# Altium footprint library Nuvoton Footprints.PcbLib: 21 footprints (part 1 of 2)
Each footprint in its own frame and in the unit in brackets; x right, y up, seen from the top. Pads: shape width x height; smd on the part's side, far side on the other; paste and mask are expansions set on the pad; w line width, h text height; cw(c..) or ccw(c..) is an arc to the next point about the centre after c.
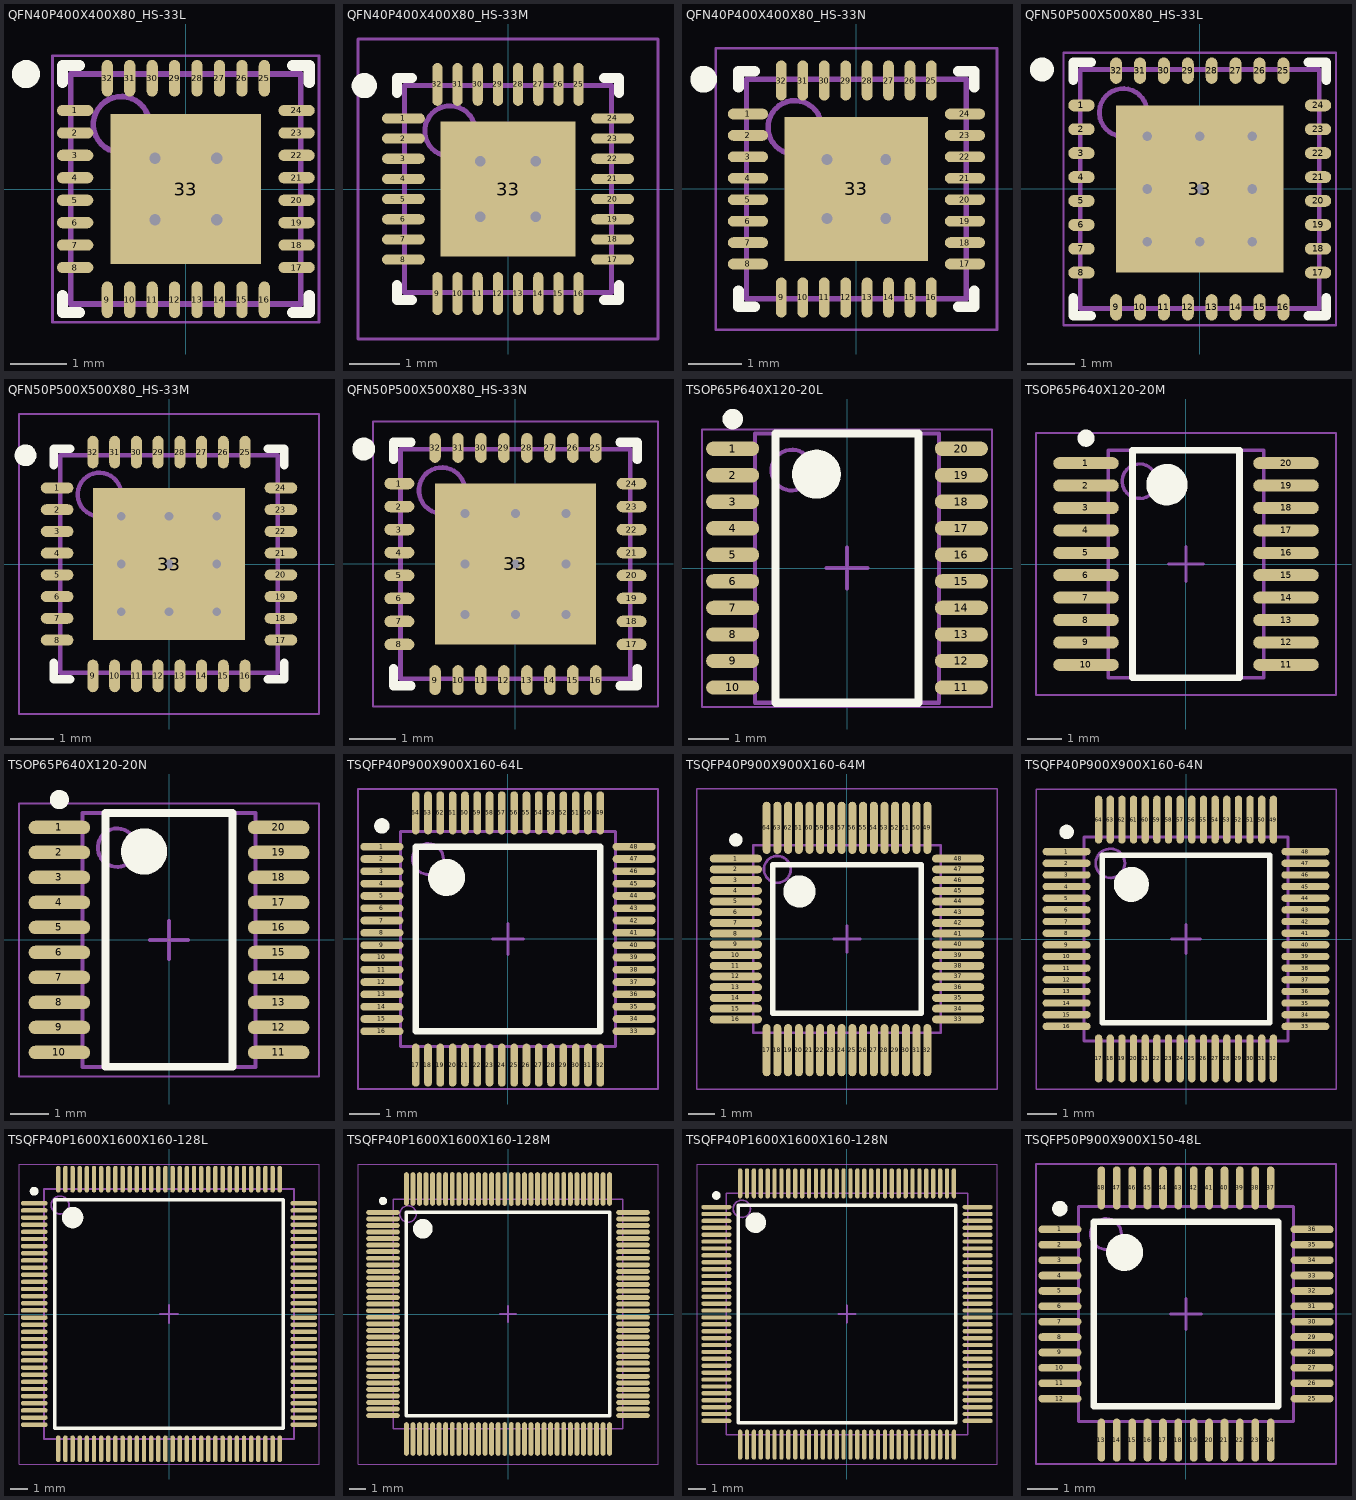
[diagram p0: the footprints below, top view; thin cyan lines are the x and y axes]

## QFN40P400X400X80_HS-33L [mm] "QFN, 32-Leads, Body 4.00x4.00mm, Pitch 0.40mm, Thermal Pad 2.68x2.68mm, IPC High Density"
height 0.8
pads (33):
  oval 0.65x0.2 smd: 1(-1.975,1.4) 2(-1.975,1) 3(-1.975,0.6) 4(-1.975,0.2) 5(-1.975,-0.2) 6(-1.975,-0.6) 7(-1.975,-1) 8(-1.975,-1.4) 17(1.975,-1.4) 18(1.975,-1) 19(1.975,-0.6) 20(1.975,-0.2) 21(1.975,0.2) 22(1.975,0.6) 23(1.975,1) 24(1.975,1.4)
  oval 0.2x0.65 smd: 9(-1.4,-1.975) 10(-1,-1.975) 11(-0.6,-1.975) 12(-0.2,-1.975) 13(0.2,-1.975) 14(0.6,-1.975) 15(1,-1.975) 16(1.4,-1.975) 25(1.4,1.975) 26(1,1.975) 27(0.6,1.975) 28(0.2,1.975) 29(-0.2,1.975) 30(-0.6,1.975) 31(-1,1.975) 32(-1.4,1.975)
  rect 2.68x2.68 smd: 33(0,0)
via -0.55,0.55 diameter 0.5 hole 0.2
via 0.55,0.55 diameter 0.5 hole 0.2
via -0.55,-0.55 diameter 0.5 hole 0.2
via 0.55,-0.55 diameter 0.5 hole 0.2
Top Overlay:
  circle w0.25: c-2.85,2.05 r0.125
  lines w0.2: -2.2,-1.9 -2.2,-2.2 -1.9,-2.2 ; -2.2,1.9 -2.2,2.2 -1.9,2.2 ; 1.9,-2.2 2.2,-2.2 2.2,-1.9 ; 1.9,2.2 2.2,2.2 2.2,1.9
Mechanical 13:
  circle w0.1: c-1.15,1.15 r0.5
  lines w0.1: -2.05,-2.05 -2.05,2.05 2.05,2.05 2.05,-2.05 -2.05,-2.05
Mechanical 15:
  lines w0.05: -2.375,-2.375 -2.375,2.375 2.375,2.375 2.375,-2.375 -2.375,-2.375
  lines w0.1: -0.5,0 0.5,0 ; 0,-0.5 0,0.5
3D body: height 0.8, standoff 0.01, extent -2.05,-2.05 2.05,2.05

## QFN40P400X400X80_HS-33M [mm] "QFN, 32-Leads, Body 4.00x4.00mm, Pitch 0.40mm, Thermal Pad 2.68x2.68mm, IPC Low Density"
height 0.8
pads (33):
  oval 0.85x0.2 smd: 1(-2.075,1.4) 2(-2.075,1) 3(-2.075,0.6) 4(-2.075,0.2) 5(-2.075,-0.2) 6(-2.075,-0.6) 7(-2.075,-1) 8(-2.075,-1.4) 17(2.075,-1.4) 18(2.075,-1) 19(2.075,-0.6) 20(2.075,-0.2) 21(2.075,0.2) 22(2.075,0.6) 23(2.075,1) 24(2.075,1.4)
  oval 0.2x0.85 smd: 9(-1.4,-2.075) 10(-1,-2.075) 11(-0.6,-2.075) 12(-0.2,-2.075) 13(0.2,-2.075) 14(0.6,-2.075) 15(1,-2.075) 16(1.4,-2.075) 25(1.4,2.075) 26(1,2.075) 27(0.6,2.075) 28(0.2,2.075) 29(-0.2,2.075) 30(-0.6,2.075) 31(-1,2.075) 32(-1.4,2.075)
  rect 2.68x2.68 smd: 33(0,0)
via -0.55,0.55 diameter 0.5 hole 0.2
via 0.55,0.55 diameter 0.5 hole 0.2
via -0.55,-0.55 diameter 0.5 hole 0.2
via 0.55,-0.55 diameter 0.5 hole 0.2
Top Overlay:
  circle w0.25: c-2.85,2.05 r0.125
  lines w0.2: -2.2,-1.9 -2.2,-2.2 -1.9,-2.2 ; -2.2,1.9 -2.2,2.2 -1.9,2.2 ; 1.9,-2.2 2.2,-2.2 2.2,-1.9 ; 1.9,2.2 2.2,2.2 2.2,1.9
Mechanical 13:
  circle w0.1: c-1.15,1.15 r0.5
  lines w0.1: -2.05,-2.05 -2.05,2.05 2.05,2.05 2.05,-2.05 -2.05,-2.05
Mechanical 15:
  lines w0.05: -2.975,-2.975 -2.975,2.975 2.975,2.975 2.975,-2.975 -2.975,-2.975
  lines w0.1: -0.5,0 0.5,0 ; 0,-0.5 0,0.5
3D body: height 0.8, standoff 0.01, extent -2.05,-2.05 2.05,2.05

## QFN40P400X400X80_HS-33N [mm] "QFN, 32-Leads, Body 4.00x4.00mm, Pitch 0.40mm, Thermal Pad 2.68x2.68mm, IPC Medium Density"
height 0.8
pads (33):
  oval 0.75x0.2 smd: 1(-2.025,1.4) 2(-2.025,1) 3(-2.025,0.6) 4(-2.025,0.2) 5(-2.025,-0.2) 6(-2.025,-0.6) 7(-2.025,-1) 8(-2.025,-1.4) 17(2.025,-1.4) 18(2.025,-1) 19(2.025,-0.6) 20(2.025,-0.2) 21(2.025,0.2) 22(2.025,0.6) 23(2.025,1) 24(2.025,1.4)
  oval 0.2x0.75 smd: 9(-1.4,-2.025) 10(-1,-2.025) 11(-0.6,-2.025) 12(-0.2,-2.025) 13(0.2,-2.025) 14(0.6,-2.025) 15(1,-2.025) 16(1.4,-2.025) 25(1.4,2.025) 26(1,2.025) 27(0.6,2.025) 28(0.2,2.025) 29(-0.2,2.025) 30(-0.6,2.025) 31(-1,2.025) 32(-1.4,2.025)
  rect 2.68x2.68 smd: 33(0,0)
via 0.55,-0.55 diameter 0.5 hole 0.2
via -0.55,-0.55 diameter 0.5 hole 0.2
via 0.55,0.55 diameter 0.5 hole 0.2
via -0.55,0.55 diameter 0.5 hole 0.2
Top Overlay:
  circle w0.25: c-2.85,2.05 r0.125
  lines w0.2: -2.2,-1.9 -2.2,-2.2 -1.9,-2.2 ; -2.2,1.9 -2.2,2.2 -1.9,2.2 ; 1.9,-2.2 2.2,-2.2 2.2,-1.9 ; 1.9,2.2 2.2,2.2 2.2,1.9
Mechanical 13:
  circle w0.1: c-1.15,1.15 r0.5
  lines w0.1: -2.05,-2.05 2.05,-2.05 2.05,2.05 -2.05,2.05 -2.05,-2.05
Mechanical 15:
  lines w0.05: -2.625,-2.625 2.625,-2.625 2.625,2.625 -2.625,2.625 -2.625,-2.625
  lines w0.1: -0.5,0 0.5,0 ; 0,-0.5 0,0.5
3D body: height 0.8, standoff 0.01, extent -2.05,-2.05 2.05,2.05

## QFN50P500X500X80_HS-33L [mm] "QFN, 32-Leads, Body 5.00x5.00mm, Pitch 0.50mm, Thermal Pad 3.50x3.50mm, IPC High Density"
height 0.8
pads (33):
  oval 0.55x0.25 smd: 1(-2.475,1.75) 2(-2.475,1.25) 3(-2.475,0.75) 4(-2.475,0.25) 5(-2.475,-0.25) 6(-2.475,-0.75) 7(-2.475,-1.25) 8(-2.475,-1.75) 17(2.475,-1.75) 18(2.475,-1.25) 19(2.475,-0.75) 20(2.475,-0.25) 21(2.475,0.25) 22(2.475,0.75) 23(2.475,1.25) 24(2.475,1.75)
  oval 0.25x0.55 smd: 9(-1.75,-2.475) 10(-1.25,-2.475) 11(-0.75,-2.475) 12(-0.25,-2.475) 13(0.25,-2.475) 14(0.75,-2.475) 15(1.25,-2.475) 16(1.75,-2.475) 25(1.75,2.475) 26(1.25,2.475) 27(0.75,2.475) 28(0.25,2.475) 29(-0.25,2.475) 30(-0.75,2.475) 31(-1.25,2.475) 32(-1.75,2.475)
  rect 3.5x3.5 smd: 33(0,0)
via -1.1,1.1 diameter 0.5 hole 0.2
via 0,1.1 diameter 0.5 hole 0.2
via 1.1,1.1 diameter 0.5 hole 0.2
via -1.1,0 diameter 0.5 hole 0.2
via 0,0 diameter 0.5 hole 0.2
via 1.1,0 diameter 0.5 hole 0.2
via -1.1,-1.1 diameter 0.5 hole 0.2
via 0,-1.1 diameter 0.5 hole 0.2
via 1.1,-1.1 diameter 0.5 hole 0.2
Top Overlay:
  circle w0.25: c-3.3,2.5 r0.125
  lines w0.2: -2.65,-2.275 -2.65,-2.65 -2.275,-2.65 ; -2.65,2.275 -2.65,2.65 -2.275,2.65 ; 2.275,-2.65 2.65,-2.65 2.65,-2.275 ; 2.275,2.65 2.65,2.65 2.65,2.275
Mechanical 13:
  circle w0.1: c-1.6,1.6 r0.5
  lines w0.1: -2.5,-2.5 -2.5,2.5 2.5,2.5 2.5,-2.5 -2.5,-2.5
Mechanical 15:
  lines w0.05: -2.85,-2.85 -2.85,2.85 2.85,2.85 2.85,-2.85 -2.85,-2.85
  lines w0.1: -0.5,0 0.5,0 ; 0,-0.5 0,0.5
3D body: height 0.8, standoff 0.01, extent -2.5,-2.5 2.5,2.5

## QFN50P500X500X80_HS-33M [mm] "QFN, 32-Leads, Body 5.00x5.00mm, Pitch 0.50mm, Thermal Pad 3.50x3.50mm, IPC Low Density"
height 0.8
pads (33):
  oval 0.75x0.25 smd: 1(-2.575,1.75) 2(-2.575,1.25) 3(-2.575,0.75) 4(-2.575,0.25) 5(-2.575,-0.25) 6(-2.575,-0.75) 7(-2.575,-1.25) 8(-2.575,-1.75) 17(2.575,-1.75) 18(2.575,-1.25) 19(2.575,-0.75) 20(2.575,-0.25) 21(2.575,0.25) 22(2.575,0.75) 23(2.575,1.25) 24(2.575,1.75)
  oval 0.25x0.75 smd: 9(-1.75,-2.575) 10(-1.25,-2.575) 11(-0.75,-2.575) 12(-0.25,-2.575) 13(0.25,-2.575) 14(0.75,-2.575) 15(1.25,-2.575) 16(1.75,-2.575) 25(1.75,2.575) 26(1.25,2.575) 27(0.75,2.575) 28(0.25,2.575) 29(-0.25,2.575) 30(-0.75,2.575) 31(-1.25,2.575) 32(-1.75,2.575)
  rect 3.5x3.5 smd: 33(0,0)
via 1.1,-1.1 diameter 0.5 hole 0.2
via 0,-1.1 diameter 0.5 hole 0.2
via -1.1,-1.1 diameter 0.5 hole 0.2
via 1.1,0 diameter 0.5 hole 0.2
via 0,0 diameter 0.5 hole 0.2
via -1.1,0 diameter 0.5 hole 0.2
via 1.1,1.1 diameter 0.5 hole 0.2
via 0,1.1 diameter 0.5 hole 0.2
via -1.1,1.1 diameter 0.5 hole 0.2
Top Overlay:
  circle w0.25: c-3.3,2.5 r0.125
  lines w0.2: -2.65,-2.275 -2.65,-2.65 -2.275,-2.65 ; -2.65,2.275 -2.65,2.65 -2.275,2.65 ; 2.275,-2.65 2.65,-2.65 2.65,-2.275 ; 2.275,2.65 2.65,2.65 2.65,2.275
Mechanical 13:
  circle w0.1: c-1.6,1.6 r0.5
  lines w0.1: -2.5,-2.5 2.5,-2.5 2.5,2.5 -2.5,2.5 -2.5,-2.5
Mechanical 15:
  lines w0.05: -3.45,-3.45 3.45,-3.45 3.45,3.45 -3.45,3.45 -3.45,-3.45
  lines w0.1: -0.5,0 0.5,0 ; 0,-0.5 0,0.5
3D body: height 0.8, standoff 0.01, extent -2.5,-2.5 2.5,2.5

## QFN50P500X500X80_HS-33N [mm] "QFN, 32-Leads, Body 5.00x5.00mm, Pitch 0.50mm, Thermal Pad 3.50x3.50mm, IPC Medium Density"
height 0.8
pads (33):
  oval 0.65x0.25 smd: 1(-2.525,1.75) 2(-2.525,1.25) 3(-2.525,0.75) 4(-2.525,0.25) 5(-2.525,-0.25) 6(-2.525,-0.75) 7(-2.525,-1.25) 8(-2.525,-1.75) 17(2.525,-1.75) 18(2.525,-1.25) 19(2.525,-0.75) 20(2.525,-0.25) 21(2.525,0.25) 22(2.525,0.75) 23(2.525,1.25) 24(2.525,1.75)
  oval 0.25x0.65 smd: 9(-1.75,-2.525) 10(-1.25,-2.525) 11(-0.75,-2.525) 12(-0.25,-2.525) 13(0.25,-2.525) 14(0.75,-2.525) 15(1.25,-2.525) 16(1.75,-2.525) 25(1.75,2.525) 26(1.25,2.525) 27(0.75,2.525) 28(0.25,2.525) 29(-0.25,2.525) 30(-0.75,2.525) 31(-1.25,2.525) 32(-1.75,2.525)
  rect 3.5x3.5 smd: 33(0,0)
via -1.1,1.1 diameter 0.5 hole 0.2
via 0,1.1 diameter 0.5 hole 0.2
via 1.1,1.1 diameter 0.5 hole 0.2
via -1.1,0 diameter 0.5 hole 0.2
via 0,0 diameter 0.5 hole 0.2
via 1.1,0 diameter 0.5 hole 0.2
via -1.1,-1.1 diameter 0.5 hole 0.2
via 0,-1.1 diameter 0.5 hole 0.2
via 1.1,-1.1 diameter 0.5 hole 0.2
Top Overlay:
  circle w0.25: c-3.3,2.5 r0.125
  lines w0.2: -2.65,-2.275 -2.65,-2.65 -2.275,-2.65 ; -2.65,2.275 -2.65,2.65 -2.275,2.65 ; 2.275,-2.65 2.65,-2.65 2.65,-2.275 ; 2.275,2.65 2.65,2.65 2.65,2.275
Mechanical 13:
  circle w0.1: c-1.6,1.6 r0.5
  lines w0.1: -2.5,-2.5 -2.5,2.5 2.5,2.5 2.5,-2.5 -2.5,-2.5
Mechanical 15:
  lines w0.05: -3.1,-3.1 -3.1,3.1 3.1,3.1 3.1,-3.1 -3.1,-3.1
  lines w0.1: -0.5,0 0.5,0 ; 0,-0.5 0,0.5
3D body: height 0.8, standoff 0.01, extent -2.5,-2.5 2.5,2.5

## TSOP65P640X120-20L [mm] "TSOP, 20-Leads, Body 6.50x4.40mm, Pitch 0.65mm, IPC High Density"
height 1.2
pads (20):
  oval 1.3x0.35 smd: 1(-2.8,2.925) 2(-2.8,2.275) 3(-2.8,1.625) 4(-2.8,0.975) 5(-2.8,0.325) 6(-2.8,-0.325) 7(-2.8,-0.975) 8(-2.8,-1.625) 9(-2.8,-2.275) 10(-2.8,-2.925) 11(2.8,-2.925) 12(2.8,-2.275) 13(2.8,-1.625) 14(2.8,-0.975) 15(2.8,-0.325) 16(2.8,0.325) 17(2.8,0.975) 18(2.8,1.625) 19(2.8,2.275) 20(2.8,2.925)
Top Overlay:
  circle w0.6: c-0.75,2.3 r0.3
  circle w0.25: c-2.8,3.65 r0.125
  lines w0.2: -1.75,-3.3 1.75,-3.3 1.75,3.3 -1.75,3.3 -1.75,-3.3
Mechanical 13:
  circle w0.1: c-1.35,2.4 r0.5
  lines w0.1: -2.25,-3.3 2.25,-3.3 2.25,3.3 -2.25,3.3 -2.25,-3.3
Mechanical 15:
  lines w0.05: -3.55,-3.4 3.55,-3.4 3.55,3.4 -3.55,3.4 -3.55,-3.4
  lines w0.1: -0.5,0 0.5,0 ; 0,-0.5 0,0.5
3D body: height 1.2, standoff 0.15, extent -2.25,-3.3 2.25,3.3

## TSOP65P640X120-20M [mm] "TSOP, 20-Leads, Body 6.50x4.40mm, Pitch 0.65mm, IPC Low Density"
height 1.2
pads (20):
  oval 1.9x0.35 smd: 1(-2.9,2.925) 2(-2.9,2.275) 3(-2.9,1.625) 4(-2.9,0.975) 5(-2.9,0.325) 6(-2.9,-0.325) 7(-2.9,-0.975) 8(-2.9,-1.625) 9(-2.9,-2.275) 10(-2.9,-2.925) 11(2.9,-2.925) 12(2.9,-2.275) 13(2.9,-1.625) 14(2.9,-0.975) 15(2.9,-0.325) 16(2.9,0.325) 17(2.9,0.975) 18(2.9,1.625) 19(2.9,2.275) 20(2.9,2.925)
Top Overlay:
  circle w0.6: c-0.55,2.3 r0.3
  circle w0.25: c-2.9,3.65 r0.125
  lines w0.2: -1.55,-3.3 1.55,-3.3 1.55,3.3 -1.55,3.3 -1.55,-3.3
Mechanical 13:
  circle w0.1: c-1.35,2.4 r0.5
  lines w0.1: -2.25,-3.3 2.25,-3.3 2.25,3.3 -2.25,3.3 -2.25,-3.3
Mechanical 15:
  lines w0.05: -4.35,-3.8 4.35,-3.8 4.35,3.8 -4.35,3.8 -4.35,-3.8
  lines w0.1: -0.5,0 0.5,0 ; 0,-0.5 0,0.5
3D body: height 1.2, standoff 0.15, extent -2.25,-3.3 2.25,3.3

## TSOP65P640X120-20N [mm] "TSOP, 20-Leads, Body 6.50x4.40mm, Pitch 0.65mm, IPC Medium Density"
height 1.2
pads (20):
  oval 1.6x0.35 smd: 1(-2.85,2.925) 2(-2.85,2.275) 3(-2.85,1.625) 4(-2.85,0.975) 5(-2.85,0.325) 6(-2.85,-0.325) 7(-2.85,-0.975) 8(-2.85,-1.625) 9(-2.85,-2.275) 10(-2.85,-2.925) 11(2.85,-2.925) 12(2.85,-2.275) 13(2.85,-1.625) 14(2.85,-0.975) 15(2.85,-0.325) 16(2.85,0.325) 17(2.85,0.975) 18(2.85,1.625) 19(2.85,2.275) 20(2.85,2.925)
Top Overlay:
  circle w0.6: c-0.65,2.3 r0.3
  circle w0.25: c-2.85,3.65 r0.125
  lines w0.2: -1.65,-3.3 1.65,-3.3 1.65,3.3 -1.65,3.3 -1.65,-3.3
Mechanical 13:
  circle w0.1: c-1.35,2.4 r0.5
  lines w0.1: -2.25,-3.3 2.25,-3.3 2.25,3.3 -2.25,3.3 -2.25,-3.3
Mechanical 15:
  lines w0.05: -3.9,-3.55 3.9,-3.55 3.9,3.55 -3.9,3.55 -3.9,-3.55
  lines w0.1: -0.5,0 0.5,0 ; 0,-0.5 0,0.5
3D body: height 1.2, standoff 0.15, extent -2.25,-3.3 2.25,3.3

## TSQFP40P900X900X160-64L [mm] "TSQFP, 64-Leads, Body 7.00x7.00mm, Pitch 0.40mm, IPC High Density"
height 1.6
pads (64):
  oval 1.4x0.25 smd: 1(-4.1,3) 2(-4.1,2.6) 3(-4.1,2.2) 4(-4.1,1.8) 5(-4.1,1.4) 6(-4.1,1) 7(-4.1,0.6) 8(-4.1,0.2) 9(-4.1,-0.2) 10(-4.1,-0.6) 11(-4.1,-1) 12(-4.1,-1.4) 13(-4.1,-1.8) 14(-4.1,-2.2) 15(-4.1,-2.6) 16(-4.1,-3) 33(4.1,-3) 34(4.1,-2.6) 35(4.1,-2.2) 36(4.1,-1.8) 37(4.1,-1.4) 38(4.1,-1) 39(4.1,-0.6) 40(4.1,-0.2) 41(4.1,0.2) 42(4.1,0.6) 43(4.1,1) 44(4.1,1.4) 45(4.1,1.8) 46(4.1,2.2) 47(4.1,2.6) 48(4.1,3)
  oval 0.25x1.4 smd: 17(-3,-4.1) 18(-2.6,-4.1) 19(-2.2,-4.1) 20(-1.8,-4.1) 21(-1.4,-4.1) 22(-1,-4.1) 23(-0.6,-4.1) 24(-0.2,-4.1) 25(0.2,-4.1) 26(0.6,-4.1) 27(1,-4.1) 28(1.4,-4.1) 29(1.8,-4.1) 30(2.2,-4.1) 31(2.6,-4.1) 32(3,-4.1) 49(3,4.1) 50(2.6,4.1) 51(2.2,4.1) 52(1.8,4.1) 53(1.4,4.1) 54(1,4.1) 55(0.6,4.1) 56(0.2,4.1) 57(-0.2,4.1) 58(-0.6,4.1) 59(-1,4.1) 60(-1.4,4.1) 61(-1.8,4.1) 62(-2.2,4.1) 63(-2.6,4.1) 64(-3,4.1)
Top Overlay:
  circle w0.6: c-2,2 r0.3
  circle w0.25: c-4.1,3.675 r0.125
  lines w0.2: -3,-3 3,-3 3,3 -3,3 -3,-3
Mechanical 13:
  circle w0.1: c-2.6,2.6 r0.5
  lines w0.1: -3.5,-3.5 3.5,-3.5 3.5,3.5 -3.5,3.5 -3.5,-3.5
Mechanical 15:
  lines w0.05: -4.875,-4.875 4.875,-4.875 4.875,4.875 -4.875,4.875 -4.875,-4.875
  lines w0.1: -0.5,0 0.5,0 ; 0,-0.5 0,0.5
3D body: height 1.6, standoff 0.05, extent -3.5,-3.5 3.5,3.5

## TSQFP40P900X900X160-64M [mm] "TSQFP, 64-Leads, Body 7.00x7.00mm, Pitch 0.40mm, IPC Low Density"
height 1.6
pads (64):
  oval 1.95x0.3 smd: 1(-4.15,3) 2(-4.15,2.6) 3(-4.15,2.2) 4(-4.15,1.8) 5(-4.15,1.4) 6(-4.15,1) 7(-4.15,0.6) 8(-4.15,0.2) 9(-4.15,-0.2) 10(-4.15,-0.6) 11(-4.15,-1) 12(-4.15,-1.4) 13(-4.15,-1.8) 14(-4.15,-2.2) 15(-4.15,-2.6) 16(-4.15,-3) 33(4.15,-3) 34(4.15,-2.6) 35(4.15,-2.2) 36(4.15,-1.8) 37(4.15,-1.4) 38(4.15,-1) 39(4.15,-0.6) 40(4.15,-0.2) 41(4.15,0.2) 42(4.15,0.6) 43(4.15,1) 44(4.15,1.4) 45(4.15,1.8) 46(4.15,2.2) 47(4.15,2.6) 48(4.15,3)
  oval 0.3x1.95 smd: 17(-3,-4.15) 18(-2.6,-4.15) 19(-2.2,-4.15) 20(-1.8,-4.15) 21(-1.4,-4.15) 22(-1,-4.15) 23(-0.6,-4.15) 24(-0.2,-4.15) 25(0.2,-4.15) 26(0.6,-4.15) 27(1,-4.15) 28(1.4,-4.15) 29(1.8,-4.15) 30(2.2,-4.15) 31(2.6,-4.15) 32(3,-4.15) 49(3,4.15) 50(2.6,4.15) 51(2.2,4.15) 52(1.8,4.15) 53(1.4,4.15) 54(1,4.15) 55(0.6,4.15) 56(0.2,4.15) 57(-0.2,4.15) 58(-0.6,4.15) 59(-1,4.15) 60(-1.4,4.15) 61(-1.8,4.15) 62(-2.2,4.15) 63(-2.6,4.15) 64(-3,4.15)
Top Overlay:
  circle w0.25: c-4.15,3.7 r0.125
  circle w0.6: c-1.775,1.775 r0.3
  lines w0.2: -2.775,-2.775 -2.775,2.775 2.775,2.775 2.775,-2.775 -2.775,-2.775
Mechanical 13:
  circle w0.1: c-2.6,2.6 r0.5
  lines w0.1: -3.5,-3.5 -3.5,3.5 3.5,3.5 3.5,-3.5 -3.5,-3.5
Mechanical 15:
  lines w0.05: -5.6,-5.6 -5.6,5.6 5.6,5.6 5.6,-5.6 -5.6,-5.6
  lines w0.1: -0.5,0 0.5,0 ; 0,-0.5 0,0.5
3D body: height 1.6, standoff 0.05, extent -3.5,-3.5 3.5,3.5

## TSQFP40P900X900X160-64N [mm] "TSQFP, 64-Leads, Body 7.00x7.00mm, Pitch 0.40mm, IPC Medium Density"
height 1.6
pads (64):
  oval 1.65x0.25 smd: 1(-4.1,3) 2(-4.1,2.6) 3(-4.1,2.2) 4(-4.1,1.8) 5(-4.1,1.4) 6(-4.1,1) 7(-4.1,0.6) 8(-4.1,0.2) 9(-4.1,-0.2) 10(-4.1,-0.6) 11(-4.1,-1) 12(-4.1,-1.4) 13(-4.1,-1.8) 14(-4.1,-2.2) 15(-4.1,-2.6) 16(-4.1,-3) 33(4.1,-3) 34(4.1,-2.6) 35(4.1,-2.2) 36(4.1,-1.8) 37(4.1,-1.4) 38(4.1,-1) 39(4.1,-0.6) 40(4.1,-0.2) 41(4.1,0.2) 42(4.1,0.6) 43(4.1,1) 44(4.1,1.4) 45(4.1,1.8) 46(4.1,2.2) 47(4.1,2.6) 48(4.1,3)
  oval 0.25x1.65 smd: 17(-3,-4.1) 18(-2.6,-4.1) 19(-2.2,-4.1) 20(-1.8,-4.1) 21(-1.4,-4.1) 22(-1,-4.1) 23(-0.6,-4.1) 24(-0.2,-4.1) 25(0.2,-4.1) 26(0.6,-4.1) 27(1,-4.1) 28(1.4,-4.1) 29(1.8,-4.1) 30(2.2,-4.1) 31(2.6,-4.1) 32(3,-4.1) 49(3,4.1) 50(2.6,4.1) 51(2.2,4.1) 52(1.8,4.1) 53(1.4,4.1) 54(1,4.1) 55(0.6,4.1) 56(0.2,4.1) 57(-0.2,4.1) 58(-0.6,4.1) 59(-1,4.1) 60(-1.4,4.1) 61(-1.8,4.1) 62(-2.2,4.1) 63(-2.6,4.1) 64(-3,4.1)
Top Overlay:
  circle w0.25: c-4.1,3.675 r0.125
  circle w0.6: c-1.875,1.875 r0.3
  lines w0.2: -2.875,-2.875 -2.875,2.875 2.875,2.875 2.875,-2.875 -2.875,-2.875
Mechanical 13:
  circle w0.1: c-2.6,2.6 r0.5
  lines w0.1: -3.5,-3.5 -3.5,3.5 3.5,3.5 3.5,-3.5 -3.5,-3.5
Mechanical 15:
  lines w0.05: -5.15,-5.15 -5.15,5.15 5.15,5.15 5.15,-5.15 -5.15,-5.15
  lines w0.1: -0.5,0 0.5,0 ; 0,-0.5 0,0.5
3D body: height 1.6, standoff 0.05, extent -3.5,-3.5 3.5,3.5

## TSQFP40P1600X1600X160-128L [mm] "TSQFP, 128-Leads, Body 14.00x14.00mm, Pitch 0.40mm, IPC High Density"
height 1.6
pads (128):
  oval 1.5x0.25 smd: 1(-7.55,6.2) 2(-7.55,5.8) 3(-7.55,5.4) 4(-7.55,5) 5(-7.55,4.6) 6(-7.55,4.2) 7(-7.55,3.8) 8(-7.55,3.4) 9(-7.55,3) 10(-7.55,2.6) 11(-7.55,2.2) 12(-7.55,1.8) 13(-7.55,1.4) 14(-7.55,1) 15(-7.55,0.6) 16(-7.55,0.2) 17(-7.55,-0.2) 18(-7.55,-0.6) 19(-7.55,-1) 20(-7.55,-1.4) 21(-7.55,-1.8) 22(-7.55,-2.2) 23(-7.55,-2.6) 24(-7.55,-3) 25(-7.55,-3.4) 26(-7.55,-3.8) 27(-7.55,-4.2) 28(-7.55,-4.6) 29(-7.55,-5) 30(-7.55,-5.4) 31(-7.55,-5.8) 32(-7.55,-6.2) 65(7.55,-6.2) 66(7.55,-5.8) 67(7.55,-5.4) 68(7.55,-5) 69(7.55,-4.6) 70(7.55,-4.2) 71(7.55,-3.8) 72(7.55,-3.4) 73(7.55,-3) 74(7.55,-2.6) 75(7.55,-2.2) 76(7.55,-1.8) 77(7.55,-1.4) 78(7.55,-1) 79(7.55,-0.6) 80(7.55,-0.2) 81(7.55,0.2) 82(7.55,0.6) 83(7.55,1) 84(7.55,1.4) 85(7.55,1.8) 86(7.55,2.2) 87(7.55,2.6) 88(7.55,3) 89(7.55,3.4) 90(7.55,3.8) 91(7.55,4.2) 92(7.55,4.6) 93(7.55,5) 94(7.55,5.4) 95(7.55,5.8) 96(7.55,6.2)
  oval 0.25x1.5 smd: 33(-6.2,-7.55) 34(-5.8,-7.55) 35(-5.4,-7.55) 36(-5,-7.55) 37(-4.6,-7.55) 38(-4.2,-7.55) 39(-3.8,-7.55) 40(-3.4,-7.55) 41(-3,-7.55) 42(-2.6,-7.55) 43(-2.2,-7.55) 44(-1.8,-7.55) 45(-1.4,-7.55) 46(-1,-7.55) 47(-0.6,-7.55) 48(-0.2,-7.55) 49(0.2,-7.55) 50(0.6,-7.55) 51(1,-7.55) 52(1.4,-7.55) 53(1.8,-7.55) 54(2.2,-7.55) 55(2.6,-7.55) 56(3,-7.55) 57(3.4,-7.55) 58(3.8,-7.55) 59(4.2,-7.55) 60(4.6,-7.55) 61(5,-7.55) 62(5.4,-7.55) 63(5.8,-7.55) 64(6.2,-7.55) 97(6.2,7.55) 98(5.8,7.55) 99(5.4,7.55) 100(5,7.55) 101(4.6,7.55) 102(4.2,7.55) 103(3.8,7.55) 104(3.4,7.55) 105(3,7.55) 106(2.6,7.55) 107(2.2,7.55) 108(1.8,7.55) 109(1.4,7.55) 110(1,7.55) 111(0.6,7.55) 112(0.2,7.55) 113(-0.2,7.55) 114(-0.6,7.55) 115(-1,7.55) 116(-1.4,7.55) 117(-1.8,7.55) 118(-2.2,7.55) 119(-2.6,7.55) 120(-3,7.55) 121(-3.4,7.55) 122(-3.8,7.55) 123(-4.2,7.55) 124(-4.6,7.55) 125(-5,7.55) 126(-5.4,7.55) 127(-5.8,7.55) 128(-6.2,7.55)
Top Overlay:
  circle w0.6: c-5.4,5.4 r0.3
  circle w0.25: c-7.55,6.875 r0.125
  lines w0.2: -6.4,-6.4 6.4,-6.4 6.4,6.4 -6.4,6.4 -6.4,-6.4
Mechanical 13:
  circle w0.1: c-6.1,6.1 r0.5
  lines w0.1: -7,-7 7,-7 7,7 -7,7 -7,-7
Mechanical 15:
  lines w0.05: -8.4,-8.4 8.4,-8.4 8.4,8.4 -8.4,8.4 -8.4,-8.4
  lines w0.1: -0.5,0 0.5,0 ; 0,-0.5 0,0.5
3D body: height 1.6, standoff 0.05, extent -7,-7 7,7

## TSQFP40P1600X1600X160-128M [mm] "TSQFP, 128-Leads, Body 14.00x14.00mm, Pitch 0.40mm, IPC Low Density"
height 1.6
pads (128):
  oval 2.05x0.3 smd: 1(-7.625,6.2) 2(-7.625,5.8) 3(-7.625,5.4) 4(-7.625,5) 5(-7.625,4.6) 6(-7.625,4.2) 7(-7.625,3.8) 8(-7.625,3.4) 9(-7.625,3) 10(-7.625,2.6) 11(-7.625,2.2) 12(-7.625,1.8) 13(-7.625,1.4) 14(-7.625,1) 15(-7.625,0.6) 16(-7.625,0.2) 17(-7.625,-0.2) 18(-7.625,-0.6) 19(-7.625,-1) 20(-7.625,-1.4) 21(-7.625,-1.8) 22(-7.625,-2.2) 23(-7.625,-2.6) 24(-7.625,-3) 25(-7.625,-3.4) 26(-7.625,-3.8) 27(-7.625,-4.2) 28(-7.625,-4.6) 29(-7.625,-5) 30(-7.625,-5.4) 31(-7.625,-5.8) 32(-7.625,-6.2) 65(7.625,-6.2) 66(7.625,-5.8) 67(7.625,-5.4) 68(7.625,-5) 69(7.625,-4.6) 70(7.625,-4.2) 71(7.625,-3.8) 72(7.625,-3.4) 73(7.625,-3) 74(7.625,-2.6) 75(7.625,-2.2) 76(7.625,-1.8) 77(7.625,-1.4) 78(7.625,-1) 79(7.625,-0.6) 80(7.625,-0.2) 81(7.625,0.2) 82(7.625,0.6) 83(7.625,1) 84(7.625,1.4) 85(7.625,1.8) 86(7.625,2.2) 87(7.625,2.6) 88(7.625,3) 89(7.625,3.4) 90(7.625,3.8) 91(7.625,4.2) 92(7.625,4.6) 93(7.625,5) 94(7.625,5.4) 95(7.625,5.8) 96(7.625,6.2)
  oval 0.3x2.05 smd: 33(-6.2,-7.625) 34(-5.8,-7.625) 35(-5.4,-7.625) 36(-5,-7.625) 37(-4.6,-7.625) 38(-4.2,-7.625) 39(-3.8,-7.625) 40(-3.4,-7.625) 41(-3,-7.625) 42(-2.6,-7.625) 43(-2.2,-7.625) 44(-1.8,-7.625) 45(-1.4,-7.625) 46(-1,-7.625) 47(-0.6,-7.625) 48(-0.2,-7.625) 49(0.2,-7.625) 50(0.6,-7.625) 51(1,-7.625) 52(1.4,-7.625) 53(1.8,-7.625) 54(2.2,-7.625) 55(2.6,-7.625) 56(3,-7.625) 57(3.4,-7.625) 58(3.8,-7.625) 59(4.2,-7.625) 60(4.6,-7.625) 61(5,-7.625) 62(5.4,-7.625) 63(5.8,-7.625) 64(6.2,-7.625) 97(6.2,7.625) 98(5.8,7.625) 99(5.4,7.625) 100(5,7.625) 101(4.6,7.625) 102(4.2,7.625) 103(3.8,7.625) 104(3.4,7.625) 105(3,7.625) 106(2.6,7.625) 107(2.2,7.625) 108(1.8,7.625) 109(1.4,7.625) 110(1,7.625) 111(0.6,7.625) 112(0.2,7.625) 113(-0.2,7.625) 114(-0.6,7.625) 115(-1,7.625) 116(-1.4,7.625) 117(-1.8,7.625) 118(-2.2,7.625) 119(-2.6,7.625) 120(-3,7.625) 121(-3.4,7.625) 122(-3.8,7.625) 123(-4.2,7.625) 124(-4.6,7.625) 125(-5,7.625) 126(-5.4,7.625) 127(-5.8,7.625) 128(-6.2,7.625)
Top Overlay:
  circle w0.6: c-5.2,5.2 r0.3
  circle w0.25: c-7.625,6.9 r0.125
  lines w0.2: -6.2,-6.2 6.2,-6.2 6.2,6.2 -6.2,6.2 -6.2,-6.2
Mechanical 13:
  circle w0.1: c-6.1,6.1 r0.5
  lines w0.1: -7,-7 7,-7 7,7 -7,7 -7,-7
Mechanical 15:
  lines w0.05: -9.15,-9.15 9.15,-9.15 9.15,9.15 -9.15,9.15 -9.15,-9.15
  lines w0.1: -0.5,0 0.5,0 ; 0,-0.5 0,0.5
3D body: height 1.6, standoff 0.05, extent -7,-7 7,7

## TSQFP40P1600X1600X160-128N [mm] "TSQFP, 128-Leads, Body 14.00x14.00mm, Pitch 0.40mm, IPC Medium Density"
height 1.6
pads (128):
  oval 1.75x0.25 smd: 1(-7.575,6.2) 2(-7.575,5.8) 3(-7.575,5.4) 4(-7.575,5) 5(-7.575,4.6) 6(-7.575,4.2) 7(-7.575,3.8) 8(-7.575,3.4) 9(-7.575,3) 10(-7.575,2.6) 11(-7.575,2.2) 12(-7.575,1.8) 13(-7.575,1.4) 14(-7.575,1) 15(-7.575,0.6) 16(-7.575,0.2) 17(-7.575,-0.2) 18(-7.575,-0.6) 19(-7.575,-1) 20(-7.575,-1.4) 21(-7.575,-1.8) 22(-7.575,-2.2) 23(-7.575,-2.6) 24(-7.575,-3) 25(-7.575,-3.4) 26(-7.575,-3.8) 27(-7.575,-4.2) 28(-7.575,-4.6) 29(-7.575,-5) 30(-7.575,-5.4) 31(-7.575,-5.8) 32(-7.575,-6.2) 65(7.575,-6.2) 66(7.575,-5.8) 67(7.575,-5.4) 68(7.575,-5) 69(7.575,-4.6) 70(7.575,-4.2) 71(7.575,-3.8) 72(7.575,-3.4) 73(7.575,-3) 74(7.575,-2.6) 75(7.575,-2.2) 76(7.575,-1.8) 77(7.575,-1.4) 78(7.575,-1) 79(7.575,-0.6) 80(7.575,-0.2) 81(7.575,0.2) 82(7.575,0.6) 83(7.575,1) 84(7.575,1.4) 85(7.575,1.8) 86(7.575,2.2) 87(7.575,2.6) 88(7.575,3) 89(7.575,3.4) 90(7.575,3.8) 91(7.575,4.2) 92(7.575,4.6) 93(7.575,5) 94(7.575,5.4) 95(7.575,5.8) 96(7.575,6.2)
  oval 0.25x1.75 smd: 33(-6.2,-7.575) 34(-5.8,-7.575) 35(-5.4,-7.575) 36(-5,-7.575) 37(-4.6,-7.575) 38(-4.2,-7.575) 39(-3.8,-7.575) 40(-3.4,-7.575) 41(-3,-7.575) 42(-2.6,-7.575) 43(-2.2,-7.575) 44(-1.8,-7.575) 45(-1.4,-7.575) 46(-1,-7.575) 47(-0.6,-7.575) 48(-0.2,-7.575) 49(0.2,-7.575) 50(0.6,-7.575) 51(1,-7.575) 52(1.4,-7.575) 53(1.8,-7.575) 54(2.2,-7.575) 55(2.6,-7.575) 56(3,-7.575) 57(3.4,-7.575) 58(3.8,-7.575) 59(4.2,-7.575) 60(4.6,-7.575) 61(5,-7.575) 62(5.4,-7.575) 63(5.8,-7.575) 64(6.2,-7.575) 97(6.2,7.575) 98(5.8,7.575) 99(5.4,7.575) 100(5,7.575) 101(4.6,7.575) 102(4.2,7.575) 103(3.8,7.575) 104(3.4,7.575) 105(3,7.575) 106(2.6,7.575) 107(2.2,7.575) 108(1.8,7.575) 109(1.4,7.575) 110(1,7.575) 111(0.6,7.575) 112(0.2,7.575) 113(-0.2,7.575) 114(-0.6,7.575) 115(-1,7.575) 116(-1.4,7.575) 117(-1.8,7.575) 118(-2.2,7.575) 119(-2.6,7.575) 120(-3,7.575) 121(-3.4,7.575) 122(-3.8,7.575) 123(-4.2,7.575) 124(-4.6,7.575) 125(-5,7.575) 126(-5.4,7.575) 127(-5.8,7.575) 128(-6.2,7.575)
Top Overlay:
  circle w0.6: c-5.3,5.3 r0.3
  circle w0.25: c-7.575,6.875 r0.125
  lines w0.2: -6.3,-6.3 6.3,-6.3 6.3,6.3 -6.3,6.3 -6.3,-6.3
Mechanical 13:
  circle w0.1: c-6.1,6.1 r0.5
  lines w0.1: -7,-7 7,-7 7,7 -7,7 -7,-7
Mechanical 15:
  lines w0.05: -8.7,-8.7 8.7,-8.7 8.7,8.7 -8.7,8.7 -8.7,-8.7
  lines w0.1: -0.5,0 0.5,0 ; 0,-0.5 0,0.5
3D body: height 1.6, standoff 0.05, extent -7,-7 7,7

## TSQFP50P900X900X150-48L [mm] "TSQFP, 48-Leads, Body 7.00x7.00mm, Pitch 0.50mm, IPC High Density"
height 1.5
pads (48):
  oval 1.4x0.25 smd: 1(-4.1,2.75) 2(-4.1,2.25) 3(-4.1,1.75) 4(-4.1,1.25) 5(-4.1,0.75) 6(-4.1,0.25) 7(-4.1,-0.25) 8(-4.1,-0.75) 9(-4.1,-1.25) 10(-4.1,-1.75) 11(-4.1,-2.25) 12(-4.1,-2.75) 25(4.1,-2.75) 26(4.1,-2.25) 27(4.1,-1.75) 28(4.1,-1.25) 29(4.1,-0.75) 30(4.1,-0.25) 31(4.1,0.25) 32(4.1,0.75) 33(4.1,1.25) 34(4.1,1.75) 35(4.1,2.25) 36(4.1,2.75)
  oval 0.25x1.4 smd: 13(-2.75,-4.1) 14(-2.25,-4.1) 15(-1.75,-4.1) 16(-1.25,-4.1) 17(-0.75,-4.1) 18(-0.25,-4.1) 19(0.25,-4.1) 20(0.75,-4.1) 21(1.25,-4.1) 22(1.75,-4.1) 23(2.25,-4.1) 24(2.75,-4.1) 37(2.75,4.1) 38(2.25,4.1) 39(1.75,4.1) 40(1.25,4.1) 41(0.75,4.1) 42(0.25,4.1) 43(-0.25,4.1) 44(-0.75,4.1) 45(-1.25,4.1) 46(-1.75,4.1) 47(-2.25,4.1) 48(-2.75,4.1)
Top Overlay:
  circle w0.6: c-2,2 r0.3
  circle w0.25: c-4.1,3.425 r0.125
  lines w0.2: -3,-3 3,-3 3,3 -3,3 -3,-3
Mechanical 13:
  circle w0.1: c-2.6,2.6 r0.5
  lines w0.1: -3.5,-3.5 3.5,-3.5 3.5,3.5 -3.5,3.5 -3.5,-3.5
Mechanical 15:
  lines w0.05: -4.875,-4.875 4.875,-4.875 4.875,4.875 -4.875,4.875 -4.875,-4.875
  lines w0.1: -0.5,0 0.5,0 ; 0,-0.5 0,0.5
3D body: height 1.5, standoff 0.05, extent -3.5,-3.5 3.5,3.5